# EAGLE library part RP2040-ZERO-THT (library RP2040-zero)
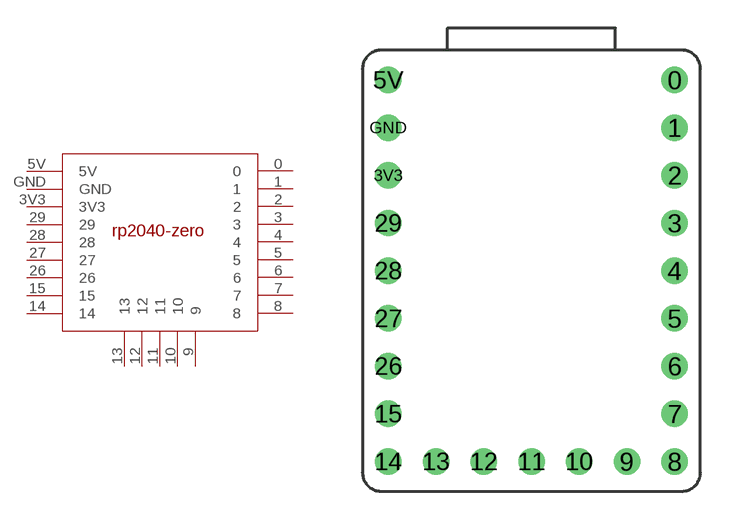
[diagram p0: symbol with the pads of RP2040-ZERO-THT; footprint RP2040-ZERO-THT]

Designator prefix -

## RP2040-ZERO-THT  [RP2040-ZERO-THT]
0  0
1  1
2  2
3  3
3V3  3V3
4  4
5  5
5V  5V
6  6
7  7
8  8
9  9
10  10
11  11
12  12
13  13
14  14
15  15
26  26
27  27
28  28
29  29
GND  GND

## Footprint RP2040-ZERO-THT (pad centres in mm)
drill 0.9: 0 7.628,10.16; 1 7.627,7.62; 2 7.626,5.08; 3 7.625,2.54; 3V3 -7.626,5.08; 4 7.624,0; 5 7.625,-2.54; 5V -7.628,10.16; 6 7.626,-5.08; 7 7.627,-7.62; 8 7.628,-10.16; 9 5.08,-10.16; 10 2.54,-10.16; 11 0,-10.16; 12 -2.54,-10.16; 13 -5.08,-10.16; 14 -7.62,-10.16; 15 -7.621,-7.62; 26 -7.622,-5.08; 27 -7.623,-2.54; 28 -7.624,0; 29 -7.625,2.54; GND -7.627,7.62